# EAGLE library part K9**G08U*A (library m-pad)
Samsung's K9**G08U*A 1G x 8 Bit / 2G x 8 Bit / 4G x 8 Bit NAND Flash Memory Description: Offered in 1G x 8bit, the K9K8G08U0A is a 8G-bit NAND Flash Memory with spare 256M-bit. Its NAND cell provides the most costeffective solution for the solid state application market. A program operation can be performed in typical 200µs on the (2K+64)Byte page and an erase operation can be performed in typical 1.5ms on a (128K+4K)Byte block. Data in the data register can be read out at 25ns(K9NBG08U5A : 50ns) cycle time per Byte. The I/O pins serve as the ports for address and data input/output as well as command input. The on-chip write controller automates all program and erase functions including pulse repetition, where required, and internal verification and margining of data. Even the write-intensive systems can take advantage of the K9K8G08U0A?s extended reliability of 100K program/erase cycles by providing ECC(Error Correcting Code) with real time mapping-out algorithm. The K9K8G08U0A is an optimum solution for large nonvolatile storage applications such as solid state file storage and other portable applications requiring non-volatility. An ultra high density solution having two 8Gb stacked with two chip selects is also available in standard TSOPI package and another ultra high density solution having two 16Gb TSOPI package stacked with four chip selects is also available in TSOPI-DSP. Features: Voltage Supply - 2.70V ~ 3.60V Organization - Memory Cell Array : (1G + 32M) - Data Register : (2K + 64) x 8bit Automatic Program and Erase - Page Program : (2K + 64)Byte - Block Erase : (128K + 4K)Byte Page Read Operation - Page Size : (2K + 64)Byte - Random Read : 25µs(Max.) - Serial Access : 25ns(Min.) * K9NBG08U5A : 50ns(Min.) Fast Write Cycle Time - Page Program time : 200µs(Typ.) - Block Erase Time : 1.5ms(Typ.) Command/Address/Data Multiplexed I/O Port Hardware Data Protection - Program/Erase Lockout During Power Transitions Reliable CMOS Floating-Gate Technology - Endurance : 100K Program/Erase Cycles(with 1bit/512Byte ECC) - Data Retention : 10 Years Command Driven Operation Intelligent Copy-Back with internal 1bit/528Byte EDC Unique ID for Copyright Protection Package : - K9K8G08U0A-PCB0/PIB0 48 - Pin TSOP I (12 x 20 / 0.5 mm pitch) - K9WAG08U1A-PCB0/PIB0 48 - Pin TSOP I (12 x 20 / 0.5 mm pitch) - K9WAG08U1A-ICB0/IIB0 52 - Pin TLGA (12 x 17 / 1.0 mm pitch) - K9NBG08U5A-PCB0/PIB0 48 - Pin TSOP I (12 x 20 / 0.5 mm pitch) Please send any comments to: messi@users.sourceforge.net
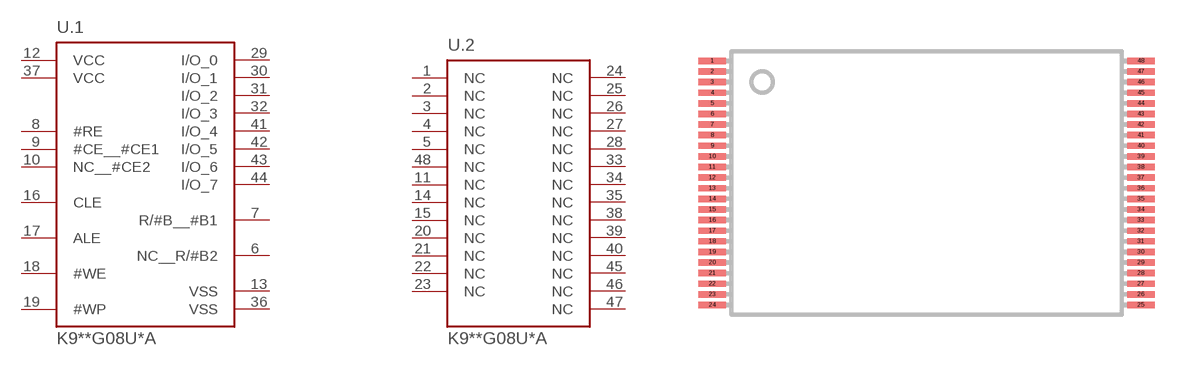
[diagram p176: symbol with the pads of TSOP48L; footprint TSOP48L]

Designator prefix U; gates .1=K9**G08U*A .2=K9**G08U*A_NC

## K9G08UA-Y  [TSOP48L]
1  .2:NC  nc
2  .2:NC  nc
3  .2:NC  nc
4  .2:NC  nc
5  .2:NC  nc
6  .1:NC__R/#B2  in
7  .1:R/#B__#B1  in
8  .1:#RE  in
9  .1:#CE__#CE1  in
10  .1:NC__#CE2  in
11  .2:NC  nc
12  .1:VCC  in
13  .1:VSS  pwr
14  .2:NC  nc
15  .2:NC  nc
16  .1:CLE  in
17  .1:ALE  in
18  .1:#WE  in
19  .1:#WP  in
20  .2:NC  nc
21  .2:NC  nc
22  .2:NC  nc
23  .2:NC  nc
24  .2:NC  nc
25  .2:NC  nc
26  .2:NC  nc
27  .2:NC  nc
28  .2:NC  nc
29  .1:I/O_0
30  .1:I/O_1
31  .1:I/O_2
32  .1:I/O_3
33  .2:NC  nc
34  .2:NC  nc
35  .2:NC  nc
36  .1:VSS  pwr
37  .1:VCC  in
38  .2:NC  nc
39  .2:NC  nc
40  .2:NC  nc
41  .1:I/O_4
42  .1:I/O_5
43  .1:I/O_6
44  .1:I/O_7
45  .2:NC  nc
46  .2:NC  nc
47  .2:NC  nc
48  .2:NC  nc

## Footprint TSOP48L (pad centres in mm)
Thin Small Outline Package Smasung's FLASH MEMORY K9WAG08U1A K9K8G08U0A K9NBG08U5A
smd 1.3 x 0.3: 1 -10.1,5.75; 2 -10.1,5.25; 3 -10.1,4.75; 4 -10.1,4.25; 5 -10.1,3.75; 6 -10.1,3.25; 7 -10.1,2.75; 8 -10.1,2.25; 9 -10.1,1.75; 10 -10.1,1.25; 11 -10.1,0.75; 12 -10.1,0.25; 13 -10.1,-0.25; 14 -10.1,-0.75; 15 -10.1,-1.25; 16 -10.1,-1.75; 17 -10.1,-2.25; 18 -10.1,-2.75; 19 -10.1,-3.25; 20 -10.1,-3.75; 21 -10.1,-4.25; 22 -10.1,-4.75; 23 -10.1,-5.25; 24 -10.1,-5.75; 25 10.1,-5.75; 26 10.1,-5.25; 27 10.1,-4.75; 28 10.1,-4.25; 29 10.1,-3.75; 30 10.1,-3.25; 31 10.1,-2.75; 32 10.1,-2.25; 33 10.1,-1.75; 34 10.1,-1.25; 35 10.1,-0.75; 36 10.1,-0.25; 37 10.1,0.25; 38 10.1,0.75; 39 10.1,1.25; 40 10.1,1.75; 41 10.1,2.25; 42 10.1,2.75; 43 10.1,3.25; 44 10.1,3.75; 45 10.1,4.25; 46 10.1,4.75; 47 10.1,5.25; 48 10.1,5.75